# EAGLE library part RJ_45 (library lbm)
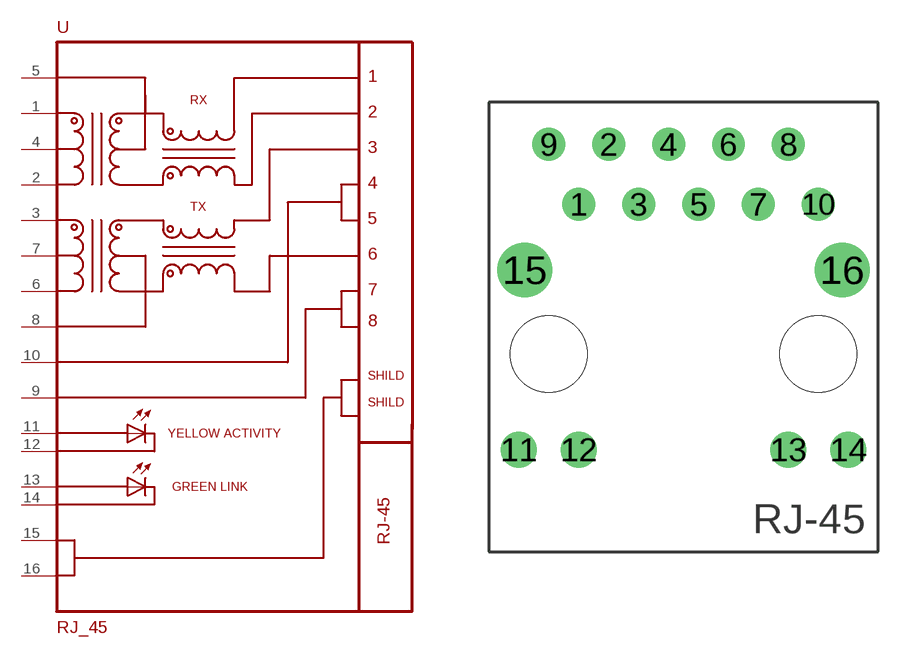
[diagram p38: symbol with the pads of RJ_45; footprint RJ_45]

Designator prefix -

## RJ_45  [RJ_45]
1  P$2
2  P$4
3  P$5
4  P$3
5  P$1
6  P$7
7  P$6
8  P$8
9  P$10
10  P$9
11  P$11
12  P$12
13  P$13
14  P$14
15  P$15
16  P$16

## Footprint RJ_45 (pad centres in mm)
drill 0.889 round: 1 0.762,-1.524; 2 2.032,1.016; 3 3.302,-1.524; 4 4.572,1.016; 5 5.842,-1.524; 6 7.112,1.016; 7 8.382,-1.524; 8 9.652,1.016; 9 -0.508,1.016; 10 10.922,-1.524
drill 1.016 round: 11 -1.778,-11.938; 12 0.762,-11.938; 13 9.652,-11.938; 14 12.192,-11.938
drill 1.549 round: 15 -1.524,-4.318; 16 11.938,-4.318
hole 3.251 at 10.922,-7.874
hole 3.251 at -0.508,-7.874